# EAGLE library part TS5A3160 (library LinnesLab-AnalogIC)
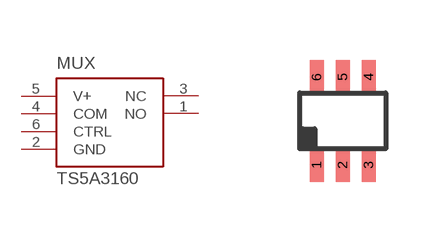
[diagram p7: symbol with the pads of DD; footprint DD]

Designator prefix MUX

## TS5A3160  [DD]
1  NO
2  GND
3  NC
4  COM
5  V+
6  CTRL

## Footprint DD (pad centres in mm)
smd 0.35 x 0.85: 1 -0.65,-1.1; 2 0,-1.1; 3 0.65,-1.1; 4 0.65,1.1; 5 0,1.1; 6 -0.65,1.1